# EAGLE library part DRV8833_DUMMY (library MDB_HOME_kap)
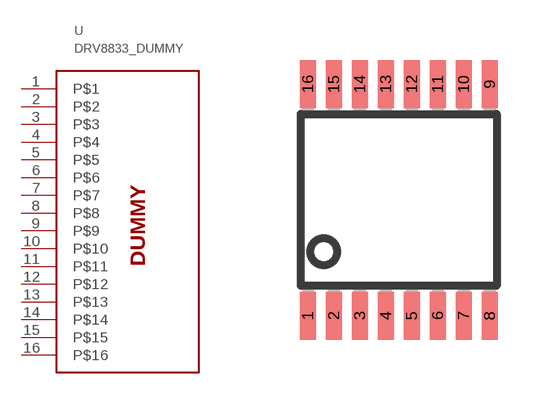
[diagram p20: symbol with the pads of PW_R-PDSO-G16; footprint PW_R-PDSO-G16]

Designator prefix -

## DRV8833_DUMMY  [PW_R-PDSO-G16]
1  P$1
2  P$2
3  P$3
4  P$4
5  P$5
6  P$6
7  P$7
8  P$8
9  P$9
10  P$10
11  P$11
12  P$12
13  P$13
14  P$14
15  P$15
16  P$16

## Footprint PW_R-PDSO-G16 (pad centres in mm)
PLASTIC SMALL-OUTLINE PACKAGE SO 16 JEDEC MO-153, PW Type Source: www.ti.com/.. slvs087l.pdf
smd 0.4 x 1.2: 1 -2.275,-2.9; 2 -1.625,-2.9; 3 -0.975,-2.9; 4 -0.325,-2.9; 5 0.325,-2.9; 6 0.975,-2.9; 7 1.625,-2.9; 8 2.275,-2.9; 9 2.275,2.9; 10 1.625,2.9; 11 0.975,2.9; 12 0.325,2.9; 13 -0.325,2.9; 14 -0.975,2.9; 15 -1.625,2.9; 16 -2.275,2.9